# Altium schematic symbol library STM32G030F6P6TR.SchLib: 1 symbol
Pins are listed as number, name and electrical type; pins without a type are passive.

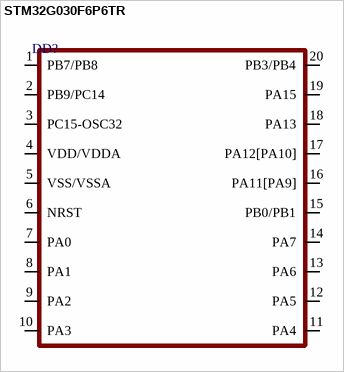
[diagram p0: symbol STM32G030F6P6TR]

## STM32G030F6P6TR
designator DD?
footprint TSSOP-20
pins: 1 PB7/PB8, 2 PB9/PC14, 3 PC15-OSC32, 4 VDD/VDDA, 5 VSS/VSSA, 6 NRST, 7 PA0, 8 PA1, 9 PA2, 10 PA3, 11 PA4, 12 PA5, 13 PA6, 14 PA7, 15 PB0/PB1, 16 PA11[PA9], 17 PA12[PA10], 18 PA13, 19 PA15, 20 PB3/PB4